# Altium footprint library ESC.PcbLib: 35 footprints (part 1 of 3)
Each footprint in its own frame and in the unit in brackets; x right, y up, seen from the top. Pads: shape width x height; smd on the part's side, far side on the other; paste and mask are expansions set on the pad; w line width, h text height; cw(c..) or ccw(c..) is an arc to the next point about the centre after c.
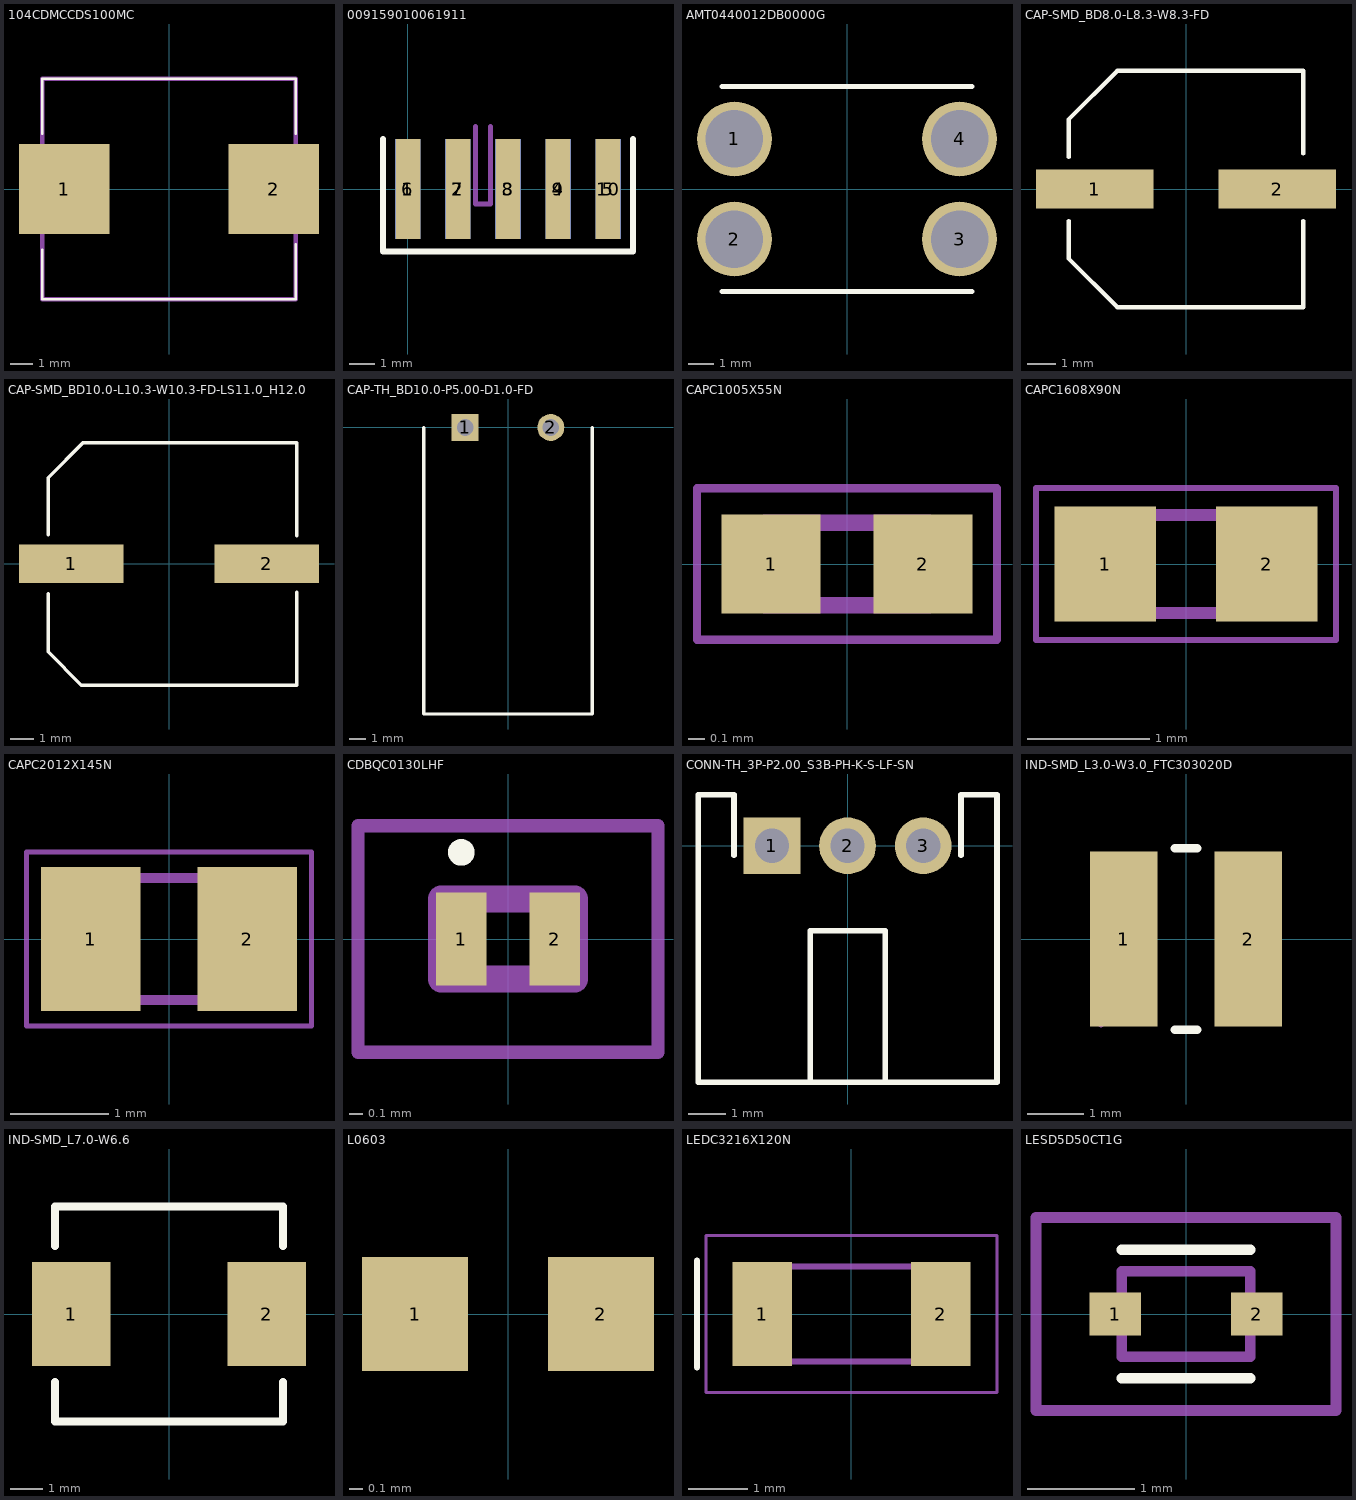
[diagram p0: the footprints below, top view; thin cyan lines are the x and y axes]

## 104CDMCCDS100MC [mm]
pads (2):
  rect 4.1x4.1 smd: 1(-4.75,0) 2(4.75,0)
Top Overlay:
  lines w0.1: -5.75,-5 -5.75,-2.75 -5.75,-5 ; -5.75,-5 5.75,-5 ; -5.75,-5 5.75,-5 ; -5.75,5 5.75,5 ; -5.75,5 5.75,5 ; -5.75,5 -5.75,2.5 -5.75,5 ; 5.75,-5 5.75,-2.5 5.75,-5 ; 5.75,5 5.75,2.5 5.75,5
Mechanical 13:
  lines w0.2: -5.75,-5 -5.75,5 5.75,5 5.75,-5 -5.75,-5
3D body "104CDMCCDS-100MC.stp": height 4.1, standoff 0, extent -6.39,-5 6.39,5

## 009159010061911 [mm]
pads (10):
  rect 1x4 smd: 1(0,0) 2(2,0) 3(4,0) 4(6,0) 5(8,0)
  rect 1x4 smd far side: 6(0,0) 7(2,0) 8(4,0) 9(6,0) 10(8,0)
Top Overlay:
  lines w0.254: -1,2 -1,-2.5 9,-2.5 9,2
Bottom Overlay:
  lines w0.254: -1,2 -1,-2.5 9,-2.5 9,2
Mechanical 13:
  lines w0.2: 2.7,2.5 2.7,-0.6 3.3,-0.6 3.3,2.5

## AMT0440012DB0000G [mm]
pads (4):
  round 3 hole 2.3: 1(-4.5,2) 2(-4.5,-2) 3(4.5,-2) 4(4.5,2)
Top Overlay:
  lines w0.2: -5,-4.1 5,-4.1 ; -5,4.1 5,4.1

## CAP-SMD_BD8.0-L8.3-W8.3-FD [mm]
pads (2):
  rect 4.2x1.4 smd: 1(-3.27,0) 2(3.27,0)
Top Overlay:
  lines w0.15: -4.2,-1.143 -4.2,-2.49 -2.46,-4.23 4.2,-4.23 4.2,-1.143 ; -4.2,1.143 -4.2,2.49 -2.46,4.23 4.2,4.23 4.2,1.27
Mechanical 6:
3D body "CAP-SMD_BD8.0-L8.3-W8.3-FD.step": height 10, standoff -0.05, extent -5,-4.151 5,4.15

## CAP-SMD_BD10.0-L10.3-W10.3-FD-LS11.0_H12.0 [mm]
pads (2):
  rect 4.5x1.65 smd: 1(-4.2,0) 2(4.2,0)
Top Overlay:
  lines w0.15: -5.2,-1.29 -5.2,-3.796 -3.773,-5.23 5.5,-5.23 5.5,-1.23 ; -5.2,1.248 -5.2,3.7 -3.7,5.2 5.5,5.2 5.5,1.2
3D body "CAP-SMD_BD10.0-L10.3-W10.3-FD-LS11.0_H12.0.step": height 12, standoff 0, extent -5.45,-5.15 5.45,5.15

## CAP-TH_BD10.0-P5.00-D1.0-FD [mm]
pads (2):
  rect 1.6x1.6 hole 1: 1(-2.54,0)
  round 1.6 hole 1: 2(2.54,0)
Top Overlay:
  lines w0.2: -5,0 -5,-17 5,-17 5,0
Mechanical 6:
  circle w0.3: c2.54,0 r0.15
  circle w0.3: c-2.54,0 r0.15
3D body "CAP-TH_D10.0-H16.0-P5.00.step": height 10, standoff 0, extent -5,-16.91 5,2.5

## CAPC1005X55N [mm]
pads (2):
  rect 0.6x0.6 smd: 1(-0.46,0) 2(0.46,0)
Mechanical 13:
  lines w0.1: -0.5,-0.25 -0.5,0.25 0.5,0.25 0.5,-0.25 -0.5,-0.25
Mechanical 15:
  lines w0.05: -0.91,-0.46 -0.91,0.46 0.91,0.46 0.91,-0.46 -0.91,-0.46
3D body "CC0402KRX7R9BB104.stp": height 0.55, standoff 0, extent -0.5,-0.25 0.5,0.25

## CAPC1608X90N [mm]
pads (2):
  rect 0.83x0.94 smd: 1(-0.66,0) 2(0.66,0)
Mechanical 13:
  lines w0.1: -0.8,-0.4 -0.8,0.4 0.8,0.4 0.8,-0.4 -0.8,-0.4
Mechanical 15:
  lines w0.05: -1.225,-0.62 -1.225,0.62 1.225,0.62 1.225,-0.62 -1.225,-0.62
3D body "CC0603KRX7R9BB104.stp": height 0.9, standoff 0, extent -0.8,-0.4 0.8,0.4

## CAPC2012X145N [mm]
pads (2):
  rect 1.02x1.47 smd: 1(-0.8,0) 2(0.8,0)
Mechanical 13:
  lines w0.1: -1,-0.625 -1,0.625 1,0.625 1,-0.625 -1,-0.625
Mechanical 15:
  lines w0.05: -1.46,-0.89 -1.46,0.89 1.46,0.89 1.46,-0.89 -1.46,-0.89
3D body "CC0805MKX5R8BB226.stp": height 1.45, standoff 0, extent -1,-0.625 1,0.625

## CDBQC0130LHF [mm]
pads (2):
  rect 0.38x0.7 smd: 1(-0.35,0) 2(0.35,0)
Top Overlay:
  lines w0.1: -0.35,0.6 cw(c-0.35,0.65) -0.35,0.7 cw(c-0.35,0.65) -0.35,0.6
Mechanical 13:
  lines w0.2: -0.5,-0.3 0.5,-0.3 0.5,0.3 -0.5,0.3 -0.5,-0.3
Mechanical 15:
  lines w0.1: -1.125,-0.85 1.125,-0.85 1.125,0.85 -1.125,0.85 -1.125,-0.85
3D body "CDBQC0130L-HF.stp": height 0.55, standoff 0, extent -0.5,-0.3 0.5,0.3

## CONN-TH_3P-P2.00_S3B-PH-K-S-LF-SN [mm]
pads (3):
  rect 1.5x1.5 hole 0.9: 1(-2,0)
  round 1.5 hole 0.9: 2(0,0) 3(2,0)
Top Overlay:
  lines w0.15: -3,-0.25 -3,1.35 -3.95,1.35 -3.95,-6.25 3.95,-6.25 3.95,1.35 3,1.35 3,-0.25 ; -0.99,-6.25 -0.99,-2.25 1,-2.25 1,-6.25
Mechanical 6:
  circle w0.06: c-3.95,-6.25 r0.03
3D body "CONN-TH_3P-P2.00_S3B-PH-K-S-LF-SN.step": height 4.8, standoff -3.4, extent -3.95,-6.175 3.951,1.425

## IND-SMD_L3.0-W3.0_FTC303020D [mm]
pads (2):
  rect 1.2x3.1 smd: 1(-1.1,0) 2(1.1,0)
Top Overlay:
  lines w0.15: -0.2,-1.6 0.2,-1.6 ; -0.2,1.6 0.2,1.6
Mechanical 6:
  circle w0.06: c-1.5,-1.5 r0.03
3D body "IND-SMD_L3.0-W3.0_FTC303020D.step": height 2, standoff -0.02, extent -1.5,-1.5 1.5,1.51

## IND-SMD_L7.0-W6.6 [mm]
pads (2):
  rect 2.4x3.2 smd: 1(-3,0) 2(3,0)
Top Overlay:
  lines w0.25: -3.5,-2.08 -3.5,-3.3 -3.49,-3.3 3.5,-3.3 3.5,-2.08 ; -3.5,2.09 -3.5,3.3 3.48,3.3 ; 3.5,2.09 3.5,3.3
3D body "IND-SMD_L7.0-W6.6-H3.0.step": height 3.1, standoff 0, extent -3.5,-3.3 3.5,3.301

## L0603 [mm]
pads (2):
  rect 0.8x0.86 smd: 1(-0.7,0) 2(0.7,0)
3D body "L0603_L1.6-W0.8-H0.5_BEAD.step": height 0.5, standoff 0, extent -0.8,-0.4 0.8,0.4

## LEDC3216X120N [mm]
pads (2):
  rect 1x1.75 smd: 1(-1.5,0) 2(1.5,0)
Top Overlay:
  lines w0.1: -2.6,-0.9 -2.6,0.9
Mechanical 13:
  lines w0.1: -1.6,0.267 -1.067,0.8 ; -1.6,-0.8 -1.6,0.8 1.6,0.8 1.6,-0.8 -1.6,-0.8
Mechanical 15:
  lines w0.05: -2.45,-1.325 -2.45,1.325 2.45,1.325 2.45,-1.325 -2.45,-1.325
3D body "LTST-C150GKT.stp": height 1.1, standoff 0, extent -1.63,-0.8 1.57,0.8

## LESD5D50CT1G [mm]
pads (2):
  rect 0.48x0.4 smd: 1(-0.66,0) 2(0.66,0)
Top Overlay:
  lines w0.1: -0.6,-0.6 0.6,-0.6 ; -0.6,0.6 0.6,0.6
Mechanical 13:
  lines w0.1: -0.6,-0.4 -0.6,0.4 0.6,0.4 0.6,-0.4 -0.6,-0.4
Mechanical 15:
  lines w0.1: -1.4,-0.9 -1.4,0.9 1.4,0.9 1.4,-0.9 -1.4,-0.9
3D body "LESD5D5.0CT1G.stp": height 0.6, standoff 0, extent -0.8,-0.399 0.8,0.399